# Altium footprint library Other Components.PcbLib: 33 footprints (part 2 of 3)
Each footprint in its own frame and in the unit in brackets; x right, y up, seen from the top. Pads: shape width x height; smd on the part's side, far side on the other; paste and mask are expansions set on the pad; w line width, h text height; cw(c..) or ccw(c..) is an arc to the next point about the centre after c.
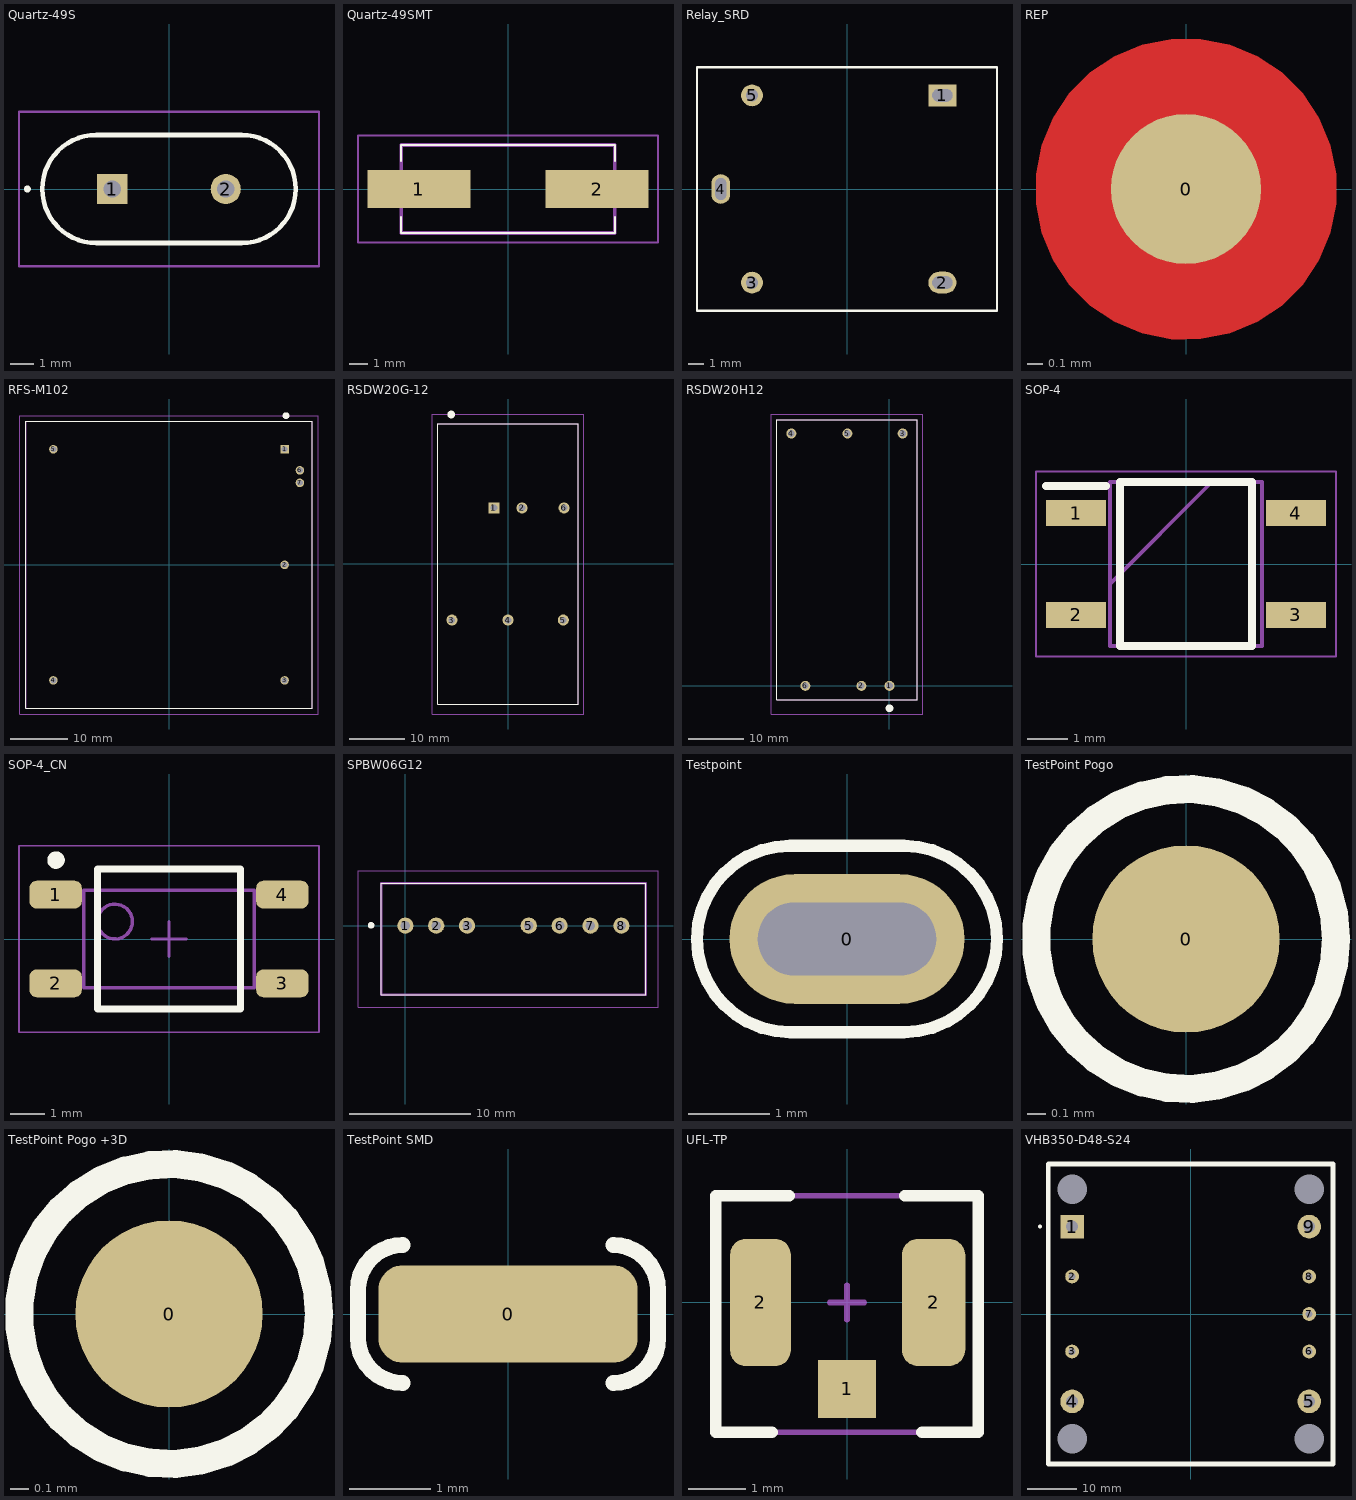
[diagram p1: the footprints below, top view; thin cyan lines are the x and y axes]

## Quartz-49S [mm]
pads (2):
  rect 1.3x1.3 hole 0.75: 1(-2.44,0)
  round 1.3 hole 0.75: 2(2.44,0)
Top Overlay:
  lines w0.2: -6.14,0 cw(c-6.09,0) -6.04,0 ; -6.14,0 ccw(c-6.09,0) -6.04,0 ; -6.14,0 cw(c-6.09,0) -6.04,0 ; -3.125,-2.325 cw(c-3.125,0) -3.125,2.325 3.125,2.325 cw(c3.125,0) 3.125,-2.325 0,-2.325 -3.125,-2.325
Top 3D Body:
  lines w0.1: -3.125,-2.325 cw(c-3.125,0) -3.125,2.325 3.125,2.325 cw(c3.125,0) 3.125,-2.325 0,-2.325 -3.125,-2.325
Top Courtyard:
  lines w0.1: -6.45,-3.325 6.45,-3.325 6.45,3.325 -6.45,3.325 -6.45,-3.325
3D body "Crystal 49S.STEP": height 3.69, standoff -1.99, extent -5.675,-2.5 5.675,2.5

## Quartz-49SMT [mm]
pads (2):
  rect 5.5x2 smd: 1(-4.75,0) 2(4.75,0)
Top Overlay:
  lines w0.1: -5.7,-1.5 -5.7,-2.35 5.7,-2.35 5.7,-1.5 ; -5.7,1.5 -5.7,2.35 5.7,2.35 5.7,1.5
Top 3D Body:
  lines w0.2: -5.7,-2.35 5.7,-2.35 5.7,2.35 -5.7,2.35 -5.7,-2.35
Top Courtyard:
  lines w0.1: -8,-2.85 8,-2.85 ; -8,-2.85 -8,2.85 ; -8,-2.85 8,-2.85 ; -8,-2.85 -8,2.85 ; -8,2.85 8,2.85 ; -8,2.85 8,2.85 ; 8,-2.85 8,2.85 ; 8,-2.85 8,2.85
3D body "Crystal 49SMT.STEP": height 4.3, standoff 0, extent -6.4,-2.415 6.4,2.415

## Relay_SRD [mm]
pads (5):
  rect 1.8x1.4 hole 0.8 slot 1.3 at 0 deg: 1(6.1,6)
  oval 1.8x1.4 hole 0.8 slot 1.3 at 0 deg: 2(6.1,-6)
  round 1.4 hole 0.8: 3(-6.1,-6) 5(-6.1,6)
  oval 1.2x1.9 hole 1.4 slot 0.7 at 0 deg: 4(-8.1,0)
Top Overlay:
  lines w0.15: -9.625,-7.8 9.6,-7.8 9.6,7.8 -9.625,7.8 -9.625,-0.125 -9.625,-7.8
3D body "SRD-Relay.STEP": height 15.8, standoff -3, extent -9.6,-7.8 9.6,7.8

## REP [mm]
pads (1):
  round 1 smd paste+0 mask+0.5: 0(0,0)
Top Layer:
  pour cut-out: 0,-1 -0.098,-1 -0.292,-0.962 -0.474,-0.886 -0.637,-0.777 -0.777,-0.637 -0.886,-0.474 -0.962,-0.292 -1,-0.098 -1,0 -1,0.098 -0.962,0.292 -0.886,0.474 -0.777,0.637 -0.637,0.777 -0.474,0.886 -0.292,0.962 -0.098,1 0,1 0.098,1 0.292,0.962 0.474,0.886 0.637,0.777 0.777,0.637 0.886,0.474 0.962,0.292 1,0.098 1,0 1,-0.098 0.962,-0.292 0.886,-0.474 0.777,-0.637 0.637,-0.777 0.474,-0.886 0.292,-0.962 0.098,-1

## RFS-M102 [mm]
pads (7):
  rect 1.5x1.5 hole 1: 1(20.3,20.3)
  round 1.5 hole 1: 2(20.3,0) 3(20.3,-20.3) 4(-20.3,-20.3) 5(-20.3,20.3) 6(23,16.6) 7(23,14.4)
Top Overlay:
  circle w0.6: c20.55,26.2 r0.3
  lines w0.2: -25.2,-25.2 25.2,-25.2 25.2,25.2 -25.2,25.2 -25.2,-25.2
Top 3D Body:
  lines w0.1: -25.2,25.2 25.2,25.2 ; -25.2,25.2 -25.2,-25.2 25.2,-25.2 25.2,25.2
Top Courtyard:
  lines w0.1: -26.2,-26.2 26.2,-26.2 26.2,26.2 -26.2,26.2 -26.2,-26.2
3D body "RFS-M102.STEP": height 24.8, standoff -5, extent -25.2,-25.2 25.2,25.2

## RSDW20G-12 [mm]
pads (6):
  rect 2x2 hole 1.2: 1(-2.54,10.16)
  round 2 hole 1.2: 2(2.54,10.16) 3(-10.16,-10.16) 4(0,-10.16) 5(10.016,-10.16) 6(10.16,10.16)
Top Overlay:
  lines w0.1: -12.7,-25.4 12.7,-25.4 12.7,25.4 -12.7,25.4 -12.7,-25.4
  lines w1.3: -10.308,27.04 cw(c-10.308,27.09) -10.308,27.14 cw(c-10.308,27.09) -10.308,27.04
Top 3D Body:
  lines w0.2: -12.7,-25.4 12.7,-25.4 12.7,25.4 -12.7,25.4 -12.7,-25.4
Top Courtyard:
  lines w0.1: -13.7,-27.18 13.7,-27.18 13.7,27.18 -13.7,27.18 -13.7,-27.18
3D body "RSDW20.STEP": height 10.35, standoff -5.55, extent -12.9,-25.6 12.9,25.6

## RSDW20H12 [mm]
pads (6):
  round 1.8 hole 1.2: 1(0,0) 2(-5.08,0) 3(2.396,45.72) 4(-17.78,45.72) 5(-7.62,45.72) 6(-15.24,0)
Top Overlay:
  lines w0.1: -20.392,-2.54 5.008,-2.54 5.008,48.26 -20.392,48.26 -20.392,-2.54
  lines w1.3: 0,-4.1 cw(c0,-4.05) 0,-4 cw(c0,-4.05) 0,-4.1
Top 3D Body:
  lines w0.2: -20.392,-2.54 5.008,-2.54 5.008,48.26 -20.392,48.26 -20.392,-2.54
Top Courtyard:
  lines w0.1: -21.392,-5.1 6.008,-5.1 6.008,49.26 -21.392,49.26 -21.392,-5.1
3D body "RSDW20H-12.stp": height 10.8, standoff -5, extent -20.392,-2.54 5.008,48.26

## SOP-4 [mm]
pads (4):
  rect 1.5x0.65 smd: 1(-2.75,1.27) 2(-2.75,-1.27) 3(2.75,-1.27) 4(2.75,1.27)
Top Overlay:
  lines w0.2: -3.5,1.945 -2,1.945 ; -1.65,-2.044 -1.65,2.044 1.65,2.044 1.65,-2.044 -1.65,-2.044
Top 3D Body:
  lines w0.1: -1.905,-0.496 0.635,2.044 ; -1.905,-2.044 -1.905,2.044 1.905,2.044 1.905,-2.044 -1.905,-2.044
Top Courtyard:
  lines w0.05: -3.75,-2.307 -3.75,2.307 3.75,2.307 3.75,-2.307 -3.75,-2.307
3D body "CPC1035N.stp": height 2.16, standoff 0, extent -3.048,-2.044 3.048,2.044

## SOP-4_CN [mm]
height 2.5
pads (4):
  rrect50% 1.5x0.8 smd mask+0.05: 1(-3.25,1.27) 2(-3.25,-1.27) 3(3.25,-1.27) 4(3.25,1.27)
Top Overlay:
  circle w0.25: c-3.238,2.262 r0.125
  lines w0.2: -2.05,-2 -2.05,2 2.05,2 2.05,-2 -2.05,-2
Top Assembly:
  circle w0.1: c-1.55,0.5 r0.5
  lines w0.1: -2.45,-1.4 -2.45,1.4 2.45,1.4 2.45,-1.4 -2.45,-1.4
Top Courtyard:
  lines w0.05: -4.3,-2.675 -4.3,2.675 4.3,2.675 4.3,-2.675 -4.3,-2.675
  lines w0.1: -0.5,0 0.5,0 ; 0,-0.5 0,0.5
3D body: height 2.5, standoff 0.1, extent -2.45,-1.975 2.45,1.975

## SPBW06G12 [mm]
pads (7):
  round 1.337 hole 0.78: 1(0,0) 2(2.54,0) 3(5.08,0) 5(10.16,0) 6(12.7,0) 7(15.24,0) 8(17.78,0)
Top Overlay:
  circle w0.254: c-2.825,0.025 r0.146
  lines w0.1: -2,-5.7 -2,3.5 19.8,3.5 19.8,-5.7 -2,-5.7
Top 3D Body:
  lines w0.2: -2,-5.7 -2,3.5 19.8,3.5 19.8,-5.7 -2,-5.7
Top Courtyard:
  lines w0.1: -3.9,-6.7 -3.9,4.5 20.8,4.5 20.8,-6.7 -3.9,-6.7
3D body "SPBW06G-12.stp": height 11.7, standoff -5, extent -2,-5.7 19.8,3.5

## Testpoint [mm] "Keystone 5011"
pads (1):
  oval 2.9x1.6 hole 0.9 slot 2.2 at 0 deg: 0(0,0)
Top Overlay:
  lines w0.15: -0.7,-1.15 cw(c-0.7,0) -0.7,1.15 0.7,1.15 cw(c0.7,0) 0.7,-1.15 -0.7,-1.15
3D body "User Library-TEST POINT GRY Keystone 5118.step": height 4.94, standoff -3.02, extent -1.27,-1.27 1.27,1.27

## TestPoint Pogo [mm]
pads (1):
  round 1 smd paste-1 mask+0.05: 0(0,0)
Top Overlay:
  circle w0.15: c0,0 r0.8

## TestPoint Pogo +3D [mm]
pads (1):
  round 1 smd paste-1 mask+0.05: 0(0,0)
Top Overlay:
  circle w0.15: c0,0 r0.8
3D body "mill-max-0985-0-15-20-71-14-11-0.step": height 8.89, standoff 0, extent -0.546,-0.546 0.546,0.546

## TestPoint SMD [mm]
pads (1):
  rrect50% 3.2x1.2 smd paste-4 mask+0.05: 0(0,0)
Top Overlay:
  lines w0.2: -1.3,-0.85 cw(c-1.3,-0.3) -1.85,-0.3 -1.85,0.3 cw(c-1.3,0.3) -1.3,0.85 ; 1.3,-0.85 ccw(c1.3,-0.3) 1.85,-0.3 1.85,0.3 ccw(c1.3,0.3) 1.3,0.85
3D body "User Library-Test point Keystone smt 5015.step": height 2, standoff 0, extent -1.451,-0.5 1.452,0.5

## UFL-TP [mm] "U.FL SMT connector (Hirose)"
height 1.25
pads (3):
  rect 1x1 smd mask+0.075: 1(0,-1.5)
  rrect50% 1.05x2.2 smd mask+0.075: 2(-1.5,0)
  rrect50% 1.1x2.2 smd mask+0.075: 2(1.5,0)
Top Overlay:
  lines w0.2: -1.3,-2.25 -2.275,-2.25 -2.275,1.85 -1,1.85 ; 1,1.85 2.275,1.85 2.275,-2.25 1.3,-2.25
Top Courtyard:
  lines w0.1: -0.3,0 0.3,0 ; 0,-0.3 0,0.3 ; -2.275,-2.25 -2.275,0 -2.275,1.85 2.275,1.85 2.275,0 2.275,-2.25 -2.275,-2.25
3D body "User Library-UFL-R-SMD.STEP": height 1.25, standoff 0, extent -1.7,-1.55 1.7,1.55

## VHB350-D48-S24 [mm]
pads (13):
  rect 4.8x4.8 hole 2.4: 1(-24.1,17.78)
  round 2.8 hole 1.4: 2(-24.1,7.62) 3(-24.1,-7.62) 6(24.1,-7.62) 7(24.1,0) 8(24.1,7.62)
  round 4.8 hole 2.4: 4(-24.1,-17.78) 5(24.1,-17.78) 9(24.1,17.78)
  round 5 hole 6 unplated: ""(-24.1,-25.4) ""(-24.1,25.4) ""(24.1,-25.4) ""(24.1,25.4)
Top Overlay:
  circle w0.4: c-30.642,17.78 r0.2
  lines w1: -28.95,-30.5 28.95,-30.5 28.95,30.5 -28.95,30.5 -28.95,-30.5
Top 3D Body:
  circle w0.8: c-24.165,17.78 r0.2
  lines w0.8: -28.95,-30.5 28.95,-30.5 28.95,30.5 -28.95,30.5 -28.95,-30.5
3D body "CUI_VHB350-D48-S24.step": height 13.2, standoff -4.6, extent -28.95,-30.5 28.95,30.5